# Altium footprint library WE-OLEFD.PcbLib: 3 footprints
Each footprint in its own frame and in the unit in brackets; x right, y up, seen from the top. Pads: shape width x height; smd on the part's side, far side on the other; paste and mask are expansions set on the pad; w line width, h text height; cw(c..) or ccw(c..) is an arc to the next point about the centre after c.
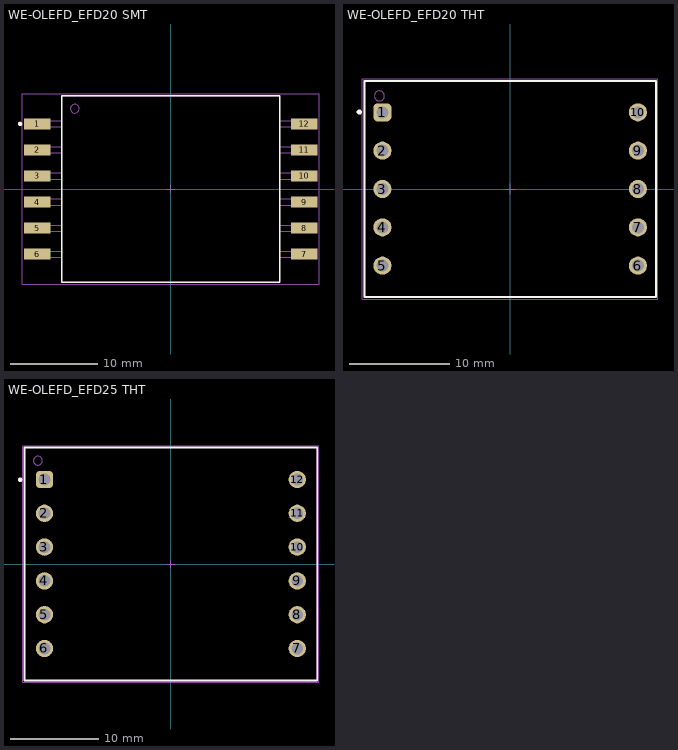
[diagram p0: the footprints below, top view; thin cyan lines are the x and y axes]

## WE-OLEFD_EFD20 SMT [mm] "Offline Flyback Transformer, SMT, body 33.80 x 21.50 mm"
height 12
pads (12):
  rect 3.05x1.25 smd: 1(-15.36,7.5) 2(-15.36,4.5) 3(-15.36,1.5) 4(-15.36,-1.5) 5(-15.36,-4.5) 6(-15.36,-7.5) 7(15.36,-7.5) 8(15.36,-4.5) 9(15.36,-1.5) 10(15.36,1.5) 11(15.36,4.5) 12(15.36,7.5)
Top Overlay:
  circle w0.25: c-17.35,7.5 r0.125
  lines w0.2: -12.555,-10.75 -12.555,10.75 12.555,10.75 12.555,-10.75 -12.555,-10.75
Top Designator:
  text ".Designator" at -7.498,-0.5 h1.5
Top Component Outline:
  circle w0.1: c-11.055,9.25 r0.5
  lines w0.1: -12.555,-7.85 -16.365,-7.85 -16.365,-7.15 -12.555,-7.15 ; -12.555,-4.85 -16.365,-4.85 -16.365,-4.15 -12.555,-4.15 ; -12.555,-1.85 -16.365,-1.85 -16.365,-1.15 -12.555,-1.15 ; -12.555,1.15 -16.365,1.15 -16.365,1.85 -12.555,1.85 ; -12.555,4.15 -16.365,4.15 -16.365,4.85 -12.555,4.85 ; -12.555,7.15 -16.365,7.15 -16.365,7.85 -12.555,7.85 ; 12.555,-7.85 16.365,-7.85 16.365,-7.15 12.555,-7.15 ; 12.555,-4.85 16.365,-4.85 16.365,-4.15 12.555,-4.15 ; 12.555,-1.85 16.365,-1.85 16.365,-1.15 12.555,-1.15 ; 12.555,1.15 16.365,1.15 16.365,1.85 12.555,1.85 ; 12.555,4.15 16.365,4.15 16.365,4.85 12.555,4.85 ; 12.555,7.15 16.365,7.15 16.365,7.85 12.555,7.85 ; -12.555,-10.75 12.555,-10.75 12.555,10.75 -12.555,10.75 -12.555,-10.75
Top Courtyard:
  lines w0.05: -0.5,0 0.5,0 ; 0,-0.5 0,0.5 ; -17.085,-10.95 -17.085,10.95 17.085,10.95 17.085,-10.95 -17.085,-10.95
3D body "070-5900 (rev1).STEP": height 11.9, standoff 0, extent -16.365,-10.1 16.365,10.1

## WE-OLEFD_EFD20 THT [mm] "Offline Flyback Transformer, THT, body 29.00 x 21.50 mm"
height 12
pads (10):
  rrect50% 1.8x1.8 hole 1.2: 1(-12.7,7.62)
  round 1.8 hole 1.2: 2(-12.7,3.81) 3(-12.7,0) 4(-12.7,-3.81) 5(-12.7,-7.62) 6(12.7,-7.62) 7(12.7,-3.81) 8(12.7,0) 9(12.7,3.81) 10(12.7,7.62)
Top Overlay:
  circle w0.25: c-15,7.65 r0.125
  lines w0.2: -14.5,-10.75 -14.5,10.75 14.5,10.75 14.5,-10.75 -14.5,-10.75
Top Designator:
  text ".Designator" at -7.498,-0.5 h1.5
Top Component Outline:
  circle w0.1: c-13,9.25 r0.5
  lines w0.1: -14.5,-10.75 14.5,-10.75 14.5,10.75 -14.5,10.75 -14.5,-10.75
Top Courtyard:
  lines w0.05: -0.5,0 0.5,0 ; 0,-0.5 0,0.5 ; -14.7,-10.95 14.7,-10.95 14.7,10.95 -14.7,10.95 -14.7,-10.95
3D body "070-5981 (rev1).STEP": height 11.8, standoff -3.24, extent -14.29,-10.35 14.29,10.35

## WE-OLEFD_EFD25 THT [mm] "Offline Flyback Transformer, THT, body 33.00 x 26.30 mm"
height 14.81
pads (12):
  rrect50% 1.95x1.95 hole 1.32: 1(-14.25,9.525)
  round 1.95 hole 1.32: 2(-14.25,5.715) 3(-14.25,1.905) 4(-14.25,-1.905) 5(-14.25,-5.715) 6(-14.25,-9.525) 7(14.25,-9.525) 8(14.25,-5.715) 9(14.25,-1.905) 10(14.25,1.905) 11(14.25,5.715) 12(14.25,9.525)
Top Overlay:
  circle w0.25: c-17,9.5 r0.125
  lines w0.2: -16.5,-13.15 -16.5,13.15 16.5,13.15 16.5,-13.15 -16.5,-13.15
Top Designator:
  text ".Designator" at -7.498,-0.5 h1.5
Top Component Outline:
  circle w0.1: c-15,11.65 r0.5
  lines w0.1: -16.5,-13.15 16.5,-13.15 16.5,13.15 -16.5,13.15 -16.5,-13.15
Top Courtyard:
  lines w0.05: -0.5,0 0.5,0 ; 0,-0.5 0,0.5 ; -16.7,-13.35 16.7,-13.35 16.7,13.35 -16.7,13.35 -16.7,-13.35
3D body "070-6008 (rev1).STEP": height 13.95, standoff -3.24, extent -16.005,-12.985 16.005,12.985